# Altium schematic symbol library IXFX64N60P3.SCHLIB: 1 symbol
Pins are listed as number, name and electrical type; pins without a type are passive.

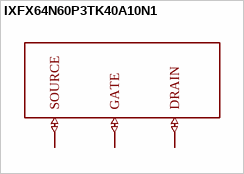
[diagram p0: symbol IXFX64N60P3TK40A10N1]

## IXFX64N60P3TK40A10N1
designator ?
GateName_1: G$1; SymbolName_1: IXFX64N60P3; DeviceName: TK40A10N1; LibraryName: IXFX64N60P3; DeviceSetName: IXFX64N60P3; Package: IXFX64N60P3
footprint IXFX64N60P3
pins: DRAIN (io), GATE (io), SOURCE (io)